# EAGLE library part 74LS126D (library rhoban)
Quad bus BUFFER, 3-state Farnell link : http://fr.farnell.com/texas-instruments/sn74ls126ad/logic-bus-buff-tri-st-qd-14soicn/dp/1739684
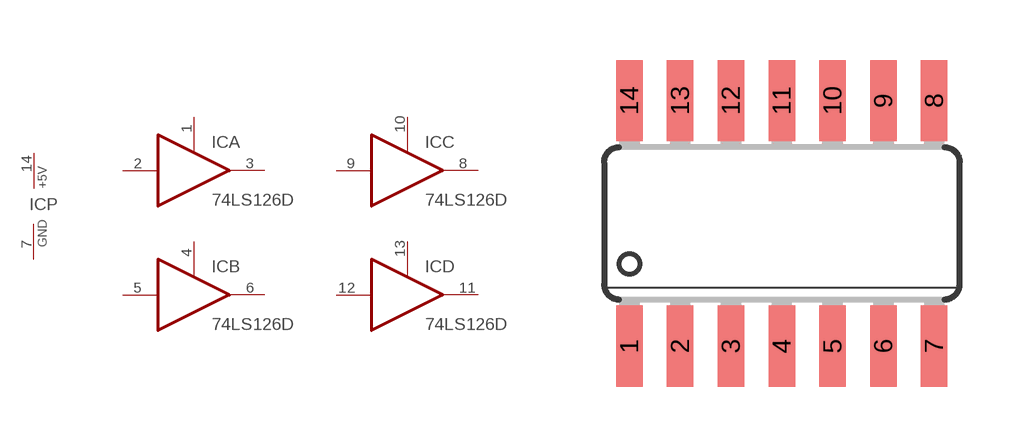
[diagram p5: symbol with the pads of SO14; footprint SO14]

Designator prefix IC; gates A=74126 B=74126 C=74126 D=74126 P=PWRN

## 74LS126D (DATASHEET: sn74ls126A.pdf; FARNELL_LINK: http://fr.farnell.com/texas-instruments/sn74ls126ad/logic-bus-buff-tri-st-qd-14soicn/dp/1739684)  [SO14]
1  A:OE  in
2  A:I  in
3  A:O  out
4  B:OE  in
5  B:I  in
6  B:O  out
7  P:GND  pwr
8  C:O  out
9  C:I  in
10  C:OE  in
11  D:O  out
12  D:I  in
13  D:OE  in
14  P:+5V  pwr

## Footprint SO14 (pad centres in mm)
Small Outline package 150 mil
smd 0.66 x 2.032: 1 -3.81,-3.073; 2 -2.54,-3.073; 3 -1.27,-3.073; 4 0,-3.073; 5 1.27,-3.073; 6 2.54,-3.073; 7 3.81,-3.073; 8 3.81,3.073; 9 2.54,3.073; 10 1.27,3.073; 11 0,3.073; 12 -1.27,3.073; 13 -2.54,3.073; 14 -3.81,3.073